# EAGLE library part DDC101P (library burr-brown)
20-Bit, ADC
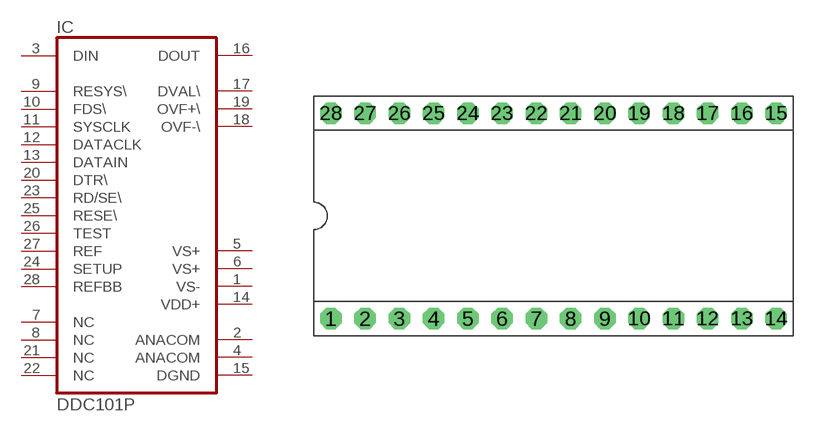
[diagram p225: symbol with the pads of DIP-28; footprint DIP-28]

Designator prefix IC

## DDC101P  [DIP-28]
1  VS-  pwr
2  ANACOM  pwr
3  DIN  in
4  ANACOM  pwr
5  VS+  pwr
6  VS+  pwr
7  NC  nc
8  NC  nc
9  RESYS\  in
10  FDS\  in
11  SYSCLK  in
12  DATACLK  in
13  DATAIN  in
14  VDD+  pwr
15  DGND  nc
16  DOUT  out
17  DVAL\  out
18  OVF-\  out
19  OVF+\  out
20  DTR\  in
21  NC  nc
22  NC  nc
23  RD/SE\  in
24  SETUP  in
25  RESE\  in
26  TEST  in
27  REF  in
28  REFBB  pas

## Footprint DIP-28 (pad centres in mm)
drill 0.813 pad 1.6 octagon: 1 -16.51,-7.62; 2 -13.97,-7.62; 3 -11.43,-7.62; 4 -8.89,-7.62; 5 -6.35,-7.62; 6 -3.81,-7.62; 7 -1.27,-7.62; 8 1.27,-7.62; 9 3.81,-7.62; 10 6.35,-7.62; 11 8.89,-7.62; 12 11.43,-7.62; 13 13.97,-7.62; 14 16.51,-7.62; 15 16.51,7.62; 16 13.97,7.62; 17 11.43,7.62; 18 8.89,7.62; 19 6.35,7.62; 20 3.81,7.62; 21 1.27,7.62; 22 -1.27,7.62; 23 -3.81,7.62; 24 -6.35,7.62; 25 -8.89,7.62; 26 -11.43,7.62; 27 -13.97,7.62; 28 -16.51,7.62